# Altium integrated library DG300-5-2.IntLib: 1 symbol
Pins are listed as number, name and electrical type; pins without a type are passive.

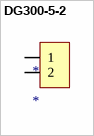
[diagram p0: symbol DG300-5-2]

## DG300-5-2
designator *
footprint DG300-5-2
pins: 1, 2